# Altium schematic symbol library diode_schottky.SchLib: 1 symbol
Pins are listed as number, name and electrical type; pins without a type are passive.

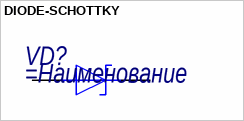
[diagram p0: symbol DIODE-SCHOTTKY]

## DIODE-SCHOTTKY
designator VD?
=Описание
pins: 1, 2